# EAGLE library part L6920 (library l6920_step_up)
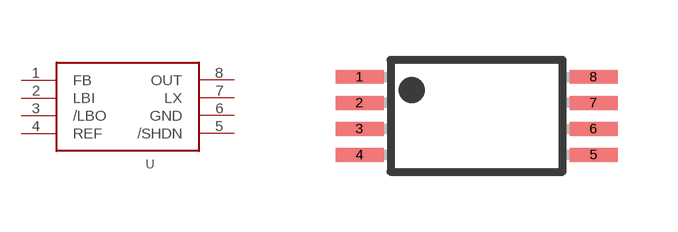
[diagram p0: symbol with the pads of TSSOP8; footprint TSSOP8]

Designator prefix -

## L6920  [TSSOP8]
1  FB
2  LBI
3  /LBO
4  REF
5  /SHDN
6  GND
7  LX
8  OUT

## Footprint TSSOP8 (pad centres in mm)
smd 1.2 x 0.35: 1 -2.925,0.975; 2 -2.925,0.325; 3 -2.925,-0.325; 4 -2.925,-0.975; 5 2.925,-0.975; 6 2.925,-0.325; 7 2.925,0.325; 8 2.925,0.975